# Altium schematic symbol library SCH - ARM CORTEX - STM STM32F030R8Tx.SchLib: 1 symbol
Pins are listed as number, name and electrical type; pins without a type are passive.

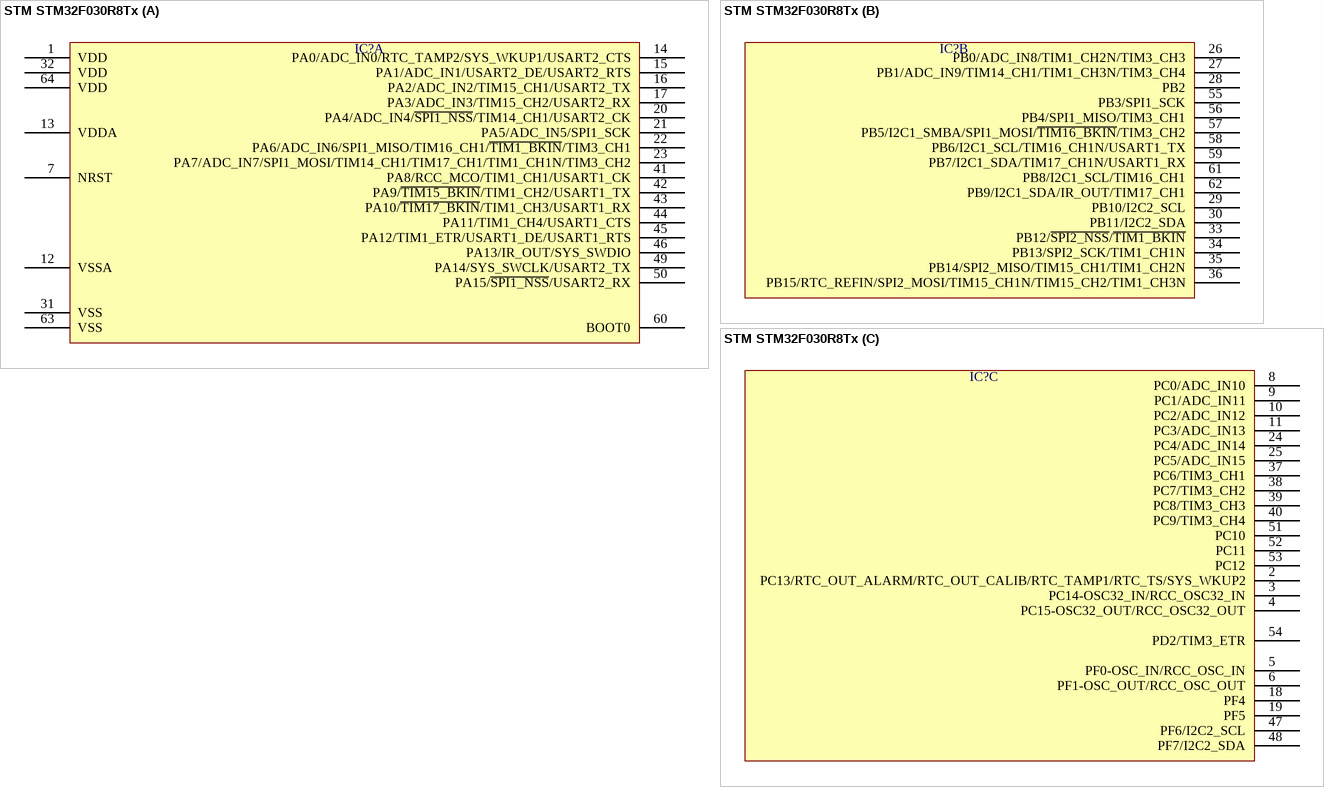
[diagram p0: symbol STM STM32F030R8Tx]

## STM STM32F030R8Tx
designator IC?  (value not drawn)
part A pins: 1 VDD, 7 NRST, 12 VSSA, 13 VDDA, 14 PA0/ADC_IN0/RTC_TAMP2/SYS_WKUP1/USART2_CTS, 15 PA1/ADC_IN1/USART2_DE/USART2_RTS, 16 PA2/ADC_IN2/TIM15_CH1/USART2_TX, 17 PA3/ADC_IN3/TIM15_CH2/USART2_RX, 20 PA4/ADC_IN4/~{SPI1_NSS}/TIM14_CH1/USART2_CK, 21 PA5/ADC_IN5/SPI1_SCK, 22 PA6/ADC_IN6/SPI1_MISO/TIM16_CH1/~{TIM1_BKIN}/TIM3_CH1, 23 PA7/ADC_IN7/SPI1_MOSI/TIM14_CH1/TIM17_CH1/TIM1_CH1N/TIM3_CH2, 31 VSS, 32 VDD, 41 PA8/RCC_MCO/TIM1_CH1/USART1_CK, 42 PA9/~{TIM15_BKIN}/TIM1_CH2/USART1_TX, 43 PA10/~{TIM17_BKIN}/TIM1_CH3/USART1_RX, 44 PA11/TIM1_CH4/USART1_CTS, 45 PA12/TIM1_ETR/USART1_DE/USART1_RTS, 46 PA13/IR_OUT/SYS_SWDIO, 49 PA14/SYS_SWCLK/USART2_TX, 50 PA15/~{SPI1_NSS}/USART2_RX, 60 BOOT0, 63 VSS, 64 VDD
part B pins: 26 PB0/ADC_IN8/TIM1_CH2N/TIM3_CH3, 27 PB1/ADC_IN9/TIM14_CH1/TIM1_CH3N/TIM3_CH4, 28 PB2, 29 PB10/I2C2_SCL, 30 PB11/I2C2_SDA, 33 PB12/~{SPI2_NSS}/~{TIM1_BKIN}, 34 PB13/SPI2_SCK/TIM1_CH1N, 35 PB14/SPI2_MISO/TIM15_CH1/TIM1_CH2N, 36 PB15/RTC_REFIN/SPI2_MOSI/TIM15_CH1N/TIM15_CH2/TIM1_CH3N, 55 PB3/SPI1_SCK, 56 PB4/SPI1_MISO/TIM3_CH1, 57 PB5/I2C1_SMBA/SPI1_MOSI/~{TIM16_BKIN}/TIM3_CH2, 58 PB6/I2C1_SCL/TIM16_CH1N/USART1_TX, 59 PB7/I2C1_SDA/TIM17_CH1N/USART1_RX, 61 PB8/I2C1_SCL/TIM16_CH1, 62 PB9/I2C1_SDA/IR_OUT/TIM17_CH1
part C pins: 2 PC13/RTC_OUT_ALARM/RTC_OUT_CALIB/RTC_TAMP1/RTC_TS/SYS_WKUP2, 3 PC14-OSC32_IN/RCC_OSC32_IN, 4 PC15-OSC32_OUT/RCC_OSC32_OUT, 5 PF0-OSC_IN/RCC_OSC_IN, 6 PF1-OSC_OUT/RCC_OSC_OUT, 8 PC0/ADC_IN10, 9 PC1/ADC_IN11, 10 PC2/ADC_IN12, 11 PC3/ADC_IN13, 18 PF4, 19 PF5, 24 PC4/ADC_IN14, 25 PC5/ADC_IN15, 37 PC6/TIM3_CH1, 38 PC7/TIM3_CH2, 39 PC8/TIM3_CH3, 40 PC9/TIM3_CH4, 47 PF6/I2C2_SCL, 48 PF7/I2C2_SDA, 51 PC10, 52 PC11, 53 PC12, 54 PD2/TIM3_ETR